# Altium footprint library WE-HCIA.PcbLib: 4 footprints
Each footprint in its own frame and in the unit in brackets; x right, y up, seen from the top. Pads: shape width x height; smd on the part's side, far side on the other; paste and mask are expansions set on the pad; w line width, h text height; cw(c..) or ccw(c..) is an arc to the next point about the centre after c.
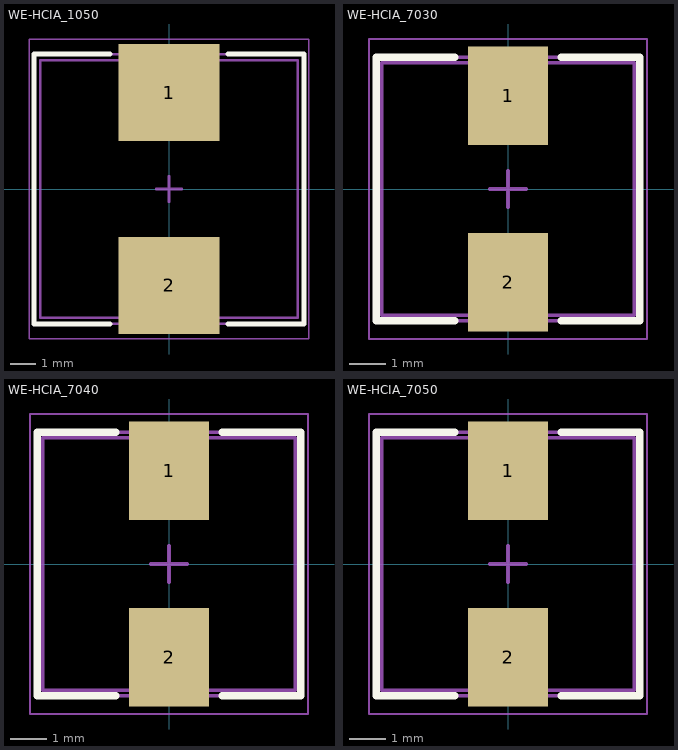
[diagram p0: the footprints below, top view; thin cyan lines are the x and y axes]

## WE-HCIA_1050 [mm] "SMD Inductor, 2-leads, body 10.2x10.5mm"
height 5
pads (2):
  rect 4x3.85 smd: 1(0,3.825) 2(0,-3.825)
Top Overlay:
  lines w0.2: -2.35,-5.35 -5.35,-5.35 -5.35,5.35 -2.35,5.35 ; 2.35,-5.35 5.35,-5.35 5.35,5.35 2.35,5.35
Top Assembly:
  lines w0.1: -5.35,-5.35 -5.35,5.35 5.35,5.35 5.35,-5.35 -5.35,-5.35
Top Designator:
  text ".Designator" at -3.647,-0.357 h1
Top 3D Body:
  lines w0.1: -5.1,-5.1 5.1,-5.1 5.1,5.1 -5.1,5.1 -5.1,-5.1
Top Courtyard:
  lines w0.05: -5.55,-5.95 -5.55,5.95 5.55,5.95 5.55,-5.95 -5.55,-5.95
Top Component Center:
  lines w0.1: -0.5,0 0.5,0 ; 0,-0.5 0,0.5
3D body "784325xxx.stp": height 4.75, standoff 0.03, extent -5.1,-5.25 5.1,5.25

## WE-HCIA_7030 [mm] "SMD Flat Wire High Current Inductor, body 6.90 x 6.90mm"
height 3
pads (2):
  rect 2.2x2.7 smd: 1(0,2.55) 2(0,-2.55)
Top Overlay:
  lines w0.2: -1.45,-3.6 -3.6,-3.6 -3.6,3.6 -1.45,3.6 ; 1.45,-3.6 3.6,-3.6 3.6,3.6 1.45,3.6
Top Assembly:
  lines w0.1: -3.6,-3.6 3.6,-3.6 3.6,3.6 -3.6,3.6 -3.6,-3.6
Top Designator:
  text ".Designator" at -3.647,-0.357 h1
Top 3D Body:
  lines w0.1: -3.45,-3.45 3.45,-3.45 3.45,3.45 -3.45,3.45 -3.45,-3.45
Top Courtyard:
  lines w0.05: -3.8,-4.1 -3.8,4.1 3.8,4.1 3.8,-4.1 -3.8,-4.1
Top Component Center:
  lines w0.1: -0.5,0 0.5,0 ; 0,-0.5 0,0.5
3D body "784310xxx.stp": height 3.05, standoff 0.05, extent -3.45,-3.5 3.45,3.5

## WE-HCIA_7040 [mm] "SMD Flat Wire High Current Inductor, body 6.90 x 6.90 mm"
height 3.8
pads (2):
  rect 2.2x2.7 smd: 1(0,2.55) 2(0,-2.55)
Top Overlay:
  lines w0.2: -1.45,-3.6 -3.6,-3.6 -3.6,3.6 -1.45,3.6 ; 1.45,-3.6 3.6,-3.6 3.6,3.6 1.45,3.6
Top Assembly:
  lines w0.1: -3.6,-3.6 -3.6,3.6 3.6,3.6 3.6,-3.6 -3.6,-3.6
Top Designator:
  text ".Designator" at -3.647,-0.357 h1
Top 3D Body:
  lines w0.1: -3.45,-3.45 3.45,-3.45 3.45,3.45 -3.45,3.45 -3.45,-3.45
Top Courtyard:
  lines w0.05: -3.8,-4.1 -3.8,4.1 3.8,4.1 3.8,-4.1 -3.8,-4.1
Top Component Center:
  lines w0.1: -0.5,0 0.5,0 ; 0,-0.5 0,0.5
3D body "784311xxx.stp": height 3.85, standoff 0.05, extent -3.45,-3.5 3.45,3.5

## WE-HCIA_7050 [mm] "SMD Flat Wire High Current Inductor, body 6.90x6.90mm"
height 4.8
pads (2):
  rect 2.2x2.7 smd: 1(0,2.55) 2(0,-2.55)
Top Overlay:
  lines w0.2: -1.45,-3.6 -3.6,-3.6 -3.6,3.6 -1.45,3.6 ; 1.45,-3.6 3.6,-3.6 3.6,3.6 1.45,3.6
Top Assembly:
  lines w0.1: -3.6,-3.6 -3.6,3.6 3.6,3.6 3.6,-3.6 -3.6,-3.6
Top Designator:
  text ".Designator" at -3.647,-0.357 h1
Top 3D Body:
  lines w0.1: -3.45,-3.45 3.45,-3.45 3.45,3.45 -3.45,3.45 -3.45,-3.45
Top Courtyard:
  lines w0.05: -3.8,-4.1 -3.8,4.1 3.8,4.1 3.8,-4.1 -3.8,-4.1
Top Component Center:
  lines w0.1: -0.5,0 0.5,0 ; 0,-0.5 0,0.5
3D body "784314xxx.stp": height 5.15, standoff 0.04, extent -3.45,-3.501 3.45,3.501